# EAGLE library part OSRAM-MULTILED-RGB (library aerial)
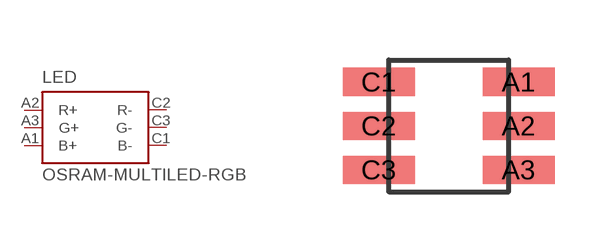
[diagram p9: symbol with the pads of PLCC-6; footprint PLCC-6]

Designator prefix LED

## OSRAM-MULTILED-RGB  [PLCC-6]
A1  B+  in
A2  R+  in
A3  G+  in
C1  B-  pwr
C2  R-  pwr
C3  G-  pwr

## Footprint PLCC-6 (pad centres in mm)
smd 1.8 x 0.7: A1 1.75,1.1; A2 1.75,0; A3 1.75,-1.1; C1 -1.75,1.1; C2 -1.75,0; C3 -1.75,-1.1